# Altium schematic symbol library ESD-SUPPRESSOR.Schlib: 1 symbol
Pins are listed as number, name and electrical type; pins without a type are passive.

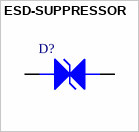
[diagram p0: symbol ESD-SUPPRESSOR]

## ESD-SUPPRESSOR
designator D?
pins: 1 B, 2 A